# EAGLE library part TDA2822M (library ST Microelectronics)
POWER AMPLIFIER
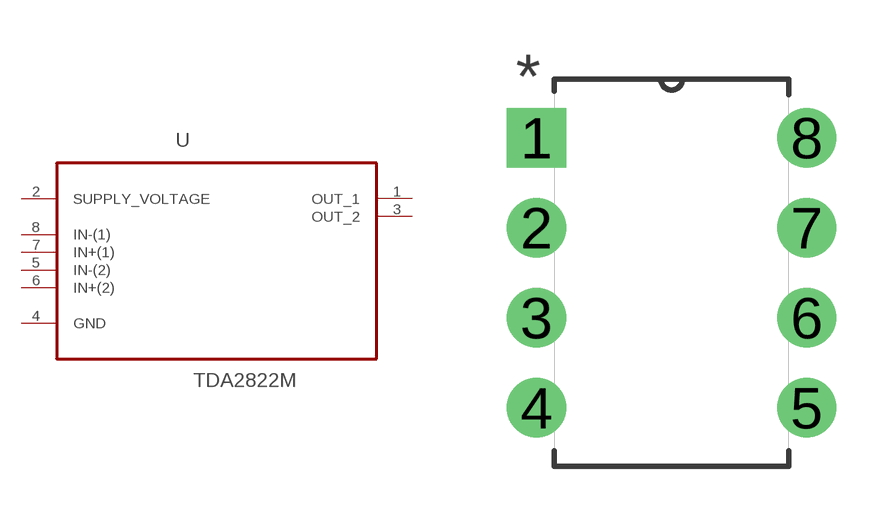
[diagram p388: symbol with the pads of DIP254P762X508-8; footprint DIP254P762X508-8]

Designator prefix U

## TDA2822M (MPN: TDA2822M; OC_FARNELL: 1218171; OC_NEWARK: 89K1049; PACKAGE: PDIP; SUPPLIER: STMICROELECTRONICS)  [DIP254P762X508-8]
1  OUT_1  out
2  SUPPLY_VOLTAGE  pwr
3  OUT_2  out
4  GND  pas
5  IN-(2)  in
6  IN+(2)  in
7  IN+(1)  in
8  IN-(1)  in

## Footprint DIP254P762X508-8 (pad centres in mm)
drill 1.118 square: 1 -7.62,7.62
drill 1.118: 2 -7.62,5.08; 3 -7.62,2.54; 4 -7.62,0; 5 0,0; 6 0,2.54; 7 0,5.08; 8 0,7.62